# Altium schematic symbol library CAP 1U.SchLib: 1 symbol
Pins are listed as number, name and electrical type; pins without a type are passive.

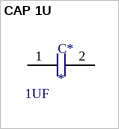
[diagram p0: symbol CAP 1U]

## CAP 1U
designator C*  Capacitance: 1UF
1µF Film Capacitor 40V 63V Polyester, Polyethylene Terephthalate (PET), Metallized - Stacked Radial; Manufacturer: EPCOS (TDK); Manufacturer Part Number: B32529C0105K189; Digi-Key Part Number: 495-2470-2-ND; ComponentLink1Description: Datasheet; ComponentLink1URL: https://www.tdk-electronics.tdk.com/inf/20/20/db/fc_2009/B32520_529.pdf
footprint PCBComponent_1
pins: 1, 2